# Altium footprint library VQFN_RGC.PcbLib: 1 footprints
Each footprint in its own frame and in the unit in brackets; x right, y up, seen from the top. Pads: shape width x height; smd on the part's side, far side on the other; paste and mask are expansions set on the pad; w line width, h text height; cw(c..) or ccw(c..) is an arc to the next point about the centre after c.
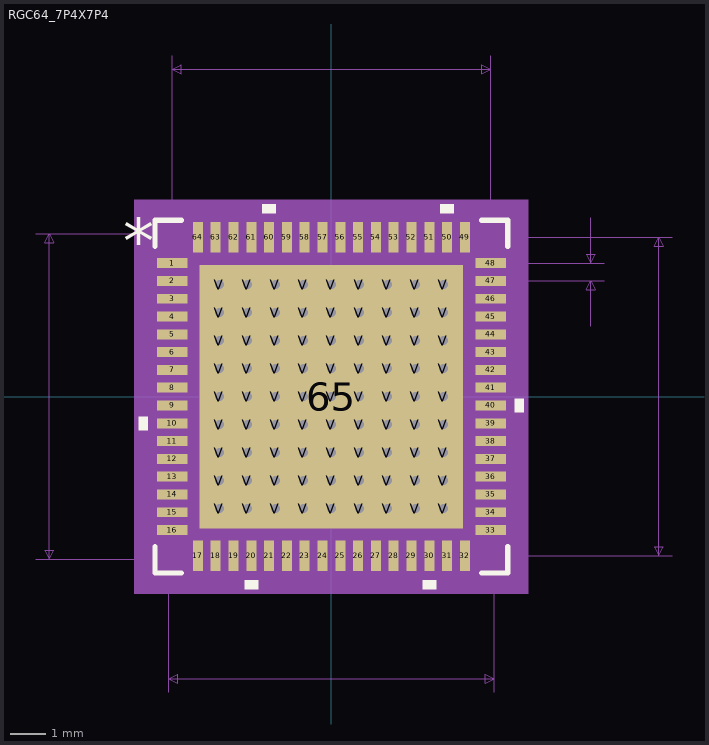
[diagram p0: the footprint, top view; thin cyan lines are the x and y axes]

## RGC64_7P4X7P4 [mil]
pads (146):
  rect 33.46x11.02 smd paste+0 mask+0: 1(-176.19,147.64) 2(-176.19,127.95) 3(-176.19,108.27) 4(-176.19,88.58) 5(-176.19,68.9) 6(-176.19,49.21) 7(-176.19,29.53) 8(-176.19,9.84) 9(-176.19,-9.84) 10(-176.19,-29.53) 11(-176.19,-49.21) 12(-176.19,-68.9) 13(-176.19,-88.58) 14(-176.19,-108.27) 15(-176.19,-127.95) 16(-176.19,-147.64) 33(176.19,-147.64) 34(176.19,-127.95) 35(176.19,-108.27) 36(176.19,-88.58) 37(176.19,-68.9) 38(176.19,-49.21) 39(176.19,-29.53) 40(176.19,-9.84) 41(176.19,9.84) 42(176.19,29.53) 43(176.19,49.21) 44(176.19,68.9) 45(176.19,88.58) 46(176.19,108.27) 47(176.19,127.95) 48(176.19,147.64)
  rect 11.02x33.46 smd paste+0 mask+0: 17(-147.68,-176.19) 18(-127.98,-176.19) 19(-108.3,-176.19) 20(-88.61,-176.19) 21(-68.92,-176.19) 22(-49.23,-176.19) 23(-29.54,-176.19) 24(-9.85,-176.19) 25(9.85,-176.19) 26(29.54,-176.19) 27(49.23,-176.19) 28(68.92,-176.19) 29(88.61,-176.19) 30(108.3,-176.19) 31(127.98,-176.19) 32(147.68,-176.19) 49(147.68,176.19) 50(127.98,176.19) 51(108.3,176.19) 52(88.61,176.19) 53(68.92,176.19) 54(49.23,176.19) 55(29.54,176.19) 56(9.85,176.19) 57(-9.85,176.19) 58(-29.54,176.19) 59(-49.23,176.19) 60(-68.92,176.19) 61(-88.61,176.19) 62(-108.3,176.19) 63(-127.98,176.19) 64(-147.68,176.19)
  rect 291.34x291.34 smd paste-145.67 mask-145: 65(0,0)
  round 20 hole 10: V(-124,-124) V(-124,-93) V(-124,-62) V(-124,-31) V(-124,0) V(-124,31) V(-124,62) V(-124,93) V(-124,124) V(-93,-124) V(-93,-93) V(-93,-62) V(-93,-31) V(-93,0) V(-93,31) V(-93,62) V(-93,93) V(-93,124) V(-62,-124) V(-62,-93) V(-62,-62) V(-62,-31) V(-62,0) V(-62,31) V(-62,62) V(-62,93) V(-62,124) V(-31,-124) V(-31,-93) V(-31,-62) V(-31,-31) V(-31,0) V(-31,31) V(-31,62) V(-31,93) V(-31,124) V(0,-124) V(0,-93) V(0,-62) V(0,-31) V(0,0) V(0,31) V(0,62) V(0,93) V(0,124) V(31,-124) V(31,-93) V(31,-62) V(31,-31) V(31,0) V(31,31) V(31,62) V(31,93) V(31,124) V(62,-124) V(62,-93) V(62,-62) V(62,-31) V(62,0) V(62,31) V(62,62) V(62,93) V(62,124) V(93,-124) V(93,-93) V(93,-62) V(93,-31) V(93,0) V(93,31) V(93,62) V(93,93) V(93,124) V(124,-124) V(124,-93) V(124,-62) V(124,-31) V(124,0) V(124,31) V(124,62) V(124,93) V(124,124)
Top Overlay:
  region: -61.41,202.92 -76.42,202.92 -76.42,212.92 -61.41,212.92
  region: 135.49,202.92 120.48,202.92 120.48,212.92 135.49,212.92
  region: 202.92,-2.34 212.92,-2.34 212.92,-17.34 202.92,-17.34
  region: 115.8,-202.92 100.8,-202.92 100.8,-212.92 115.8,-212.92
  region: -81.11,-202.92 -96.11,-202.92 -96.11,-212.92 -81.11,-212.92
  region: -202.92,-22.03 -212.92,-22.03 -212.92,-37.03 -202.92,-37.03
  lines w6: -195.12,-166.06 -195.12,-195.12 -166.1,-195.12 ; -195.12,166.06 -195.12,195.12 -166.1,195.12 ; 166.1,-195.12 195.12,-195.12 195.12,-166.06 ; 166.1,195.12 195.12,195.12 195.12,166.06
  text "*" at -230.42,147.48 h50
Top Paste:
  drawing of 100 lines, arcs and shapes, not listed
Top Solder:
  region: 131.87,-148.17 131.87,148.17 148.17,148.17 148.17,-148.17
  region: 116.13,-148.17 116.13,148.17 100.87,148.17 100.87,-148.17
  region: 85.13,-148.17 85.13,148.17 69.87,148.17 69.87,-148.17
  region: 54.13,-148.17 54.13,148.17 38.87,148.17 38.87,-148.17
  region: 23.13,-148.17 23.13,148.17 7.87,148.17 7.87,-148.17
  region: -7.87,-148.17 -7.87,148.17 -23.13,148.17 -23.13,-148.17
  region: -38.87,-148.17 -38.87,148.17 -54.13,148.17 -54.13,-148.17
  region: -69.87,-148.17 -69.87,148.17 -85.13,148.17 -85.13,-148.17
  region: -100.87,-148.17 -100.87,148.17 -116.13,148.17 -116.13,-148.17
  region: -148.17,-148.17 -148.17,148.17 -131.87,148.17 -131.87,-148.17
  region: -148.17,-148.17 -148.17,-131.87 148.17,-131.87 148.17,-148.17
  region: -148.17,-116.13 -148.17,-100.87 148.17,-100.87 148.17,-116.13
  region: -148.17,-85.13 -148.17,-69.87 148.17,-69.87 148.17,-85.13
  region: -148.17,-54.13 -148.17,-38.87 148.17,-38.87 148.17,-54.13
  region: -148.17,-23.13 -148.17,-7.87 148.17,-7.87 148.17,-23.13
  region: -148.17,7.87 -148.17,23.13 148.17,23.13 148.17,7.87
  region: -148.17,38.87 -148.17,54.13 148.17,54.13 148.17,38.87
  region: -148.17,69.87 -148.17,85.13 148.17,85.13 148.17,69.87
  region: -148.17,100.87 -148.17,116.13 148.17,116.13 148.17,100.87
  region: -148.17,131.87 -148.17,148.17 148.17,148.17 148.17,131.87
Mechanical 5:
  region: 217.92,-217.92 -217.92,-217.92 -217.92,217.92 217.92,217.92
Mechanical 7:
  lines w1: -327.01,-180.12 180.12,-180.12 ; -327.01,180.12 180.12,180.12 180.12,-327.01 ; -180.12,-327.01 -180.12,180.12 ; -176.19,147.64 -176.19,377.01 ; 147.64,-176.19 377.01,-176.19 ; 147.64,176.19 377.01,176.19 ; 176.19,127.95 302.01,127.95 ; 176.19,377.01 176.19,147.64 302.01,147.64 ; 287.01,77.95 287.01,127.95 ; 287.01,197.64 287.01,147.64 ; -312.01,-180.12 -307.01,-170.12 -317.01,-170.12 -312.01,-180.12 ; -312.01,-180.12 -312.01,180.12 ; -312.01,180.12 -307.01,170.12 -317.01,170.12 -312.01,180.12 ; -180.12,-312.01 -170.12,-317.01 -170.12,-307.01 -180.12,-312.01 ; -180.12,-312.01 180.12,-312.01 ; -176.19,362.01 -166.19,357.01 -166.19,367.01 -176.19,362.01 ; -176.19,362.01 176.19,362.01 ; 176.19,362.01 166.19,357.01 166.19,367.01 176.19,362.01 ; 180.12,-312.01 170.12,-317.01 170.12,-307.01 180.12,-312.01 ; 287.01,127.95 292.01,117.95 282.01,117.95 287.01,127.95 ; 287.01,147.64 292.01,157.64 282.01,157.64 287.01,147.64 ; 362.01,-176.19 367.01,-166.19 357.01,-166.19 362.01,-176.19 ; 362.01,-176.19 362.01,176.19 ; 362.01,176.19 367.01,166.19 357.01,166.19 362.01,176.19
  text "0.36in/9.15mm" at -81.25,-357.01 h25
  text "0.36in/9.15mm" at -494.51,-12.5 h25
  text "0.352in/8.95mm" at 382.01,-12.5 h25
  text "0.352in/8.95mm" at -87.5,382.01 h25
  text "0.02in/0.5mm" at 307.01,125.3 h25
  text "Alt 2 Padstyle: b229_152h76" at -337.5,-677.01 h50
  text "Alt 1 Padstyle: b152_229h76" at -337.5,-617.01 h50
  text "Via Padstyle: c51h25" at -250,-557.01 h50
  text "Heat Tab Padstyle: r740_740" at -337.5,-497.01 h50
  text "Default Padstyle: r28_85" at -300,-437.01 h50
Mechanical 13:
  lines w1: -180.12,130.12 -130.12,180.12 ; -180.12,-180.12 -180.12,180.12 180.12,180.12 180.12,-180.12 -180.12,-180.12
  text "*" at -161.95,132.48 h50
Mechanical 15:
  region: -163.19,-190.12 -190.12,-190.12 -190.12,-163.15 -202.92,-163.15 -202.92,163.15 -190.12,163.15 -190.12,190.12 -163.19,190.12 -163.19,202.92 163.19,202.92 163.19,190.12 190.12,190.12 190.12,163.15 202.92,163.15 202.92,-163.15 190.12,-163.15 190.12,-190.12 163.19,-190.12 163.19,-202.92 -163.19,-202.92
  lines w6: -202.92,-163.15 -202.92,163.15 -190.12,163.15 -190.12,190.12 -163.19,190.12 -163.19,202.92 163.19,202.92 163.19,190.12 190.12,190.12 190.12,163.15 202.92,163.15 202.92,-163.15 190.12,-163.15 190.12,-190.12 163.19,-190.12 163.19,-202.92 -163.19,-202.92 -163.19,-190.12 -190.12,-190.12 -190.12,-163.15 -202.92,-163.15
3D body "VQFN_RGC64.stp": height 39.37, standoff 0, extent -177.16,-177.16 177.16,177.16